# EAGLE library part 74LVC3G34DC,125 (library SamacSys_Parts)
74LVC3G34 - Triple buffer@en-us Source: Datasheet <https://assets.nexperia.com/documents/data-sheet/74LVC3G34.pdf>
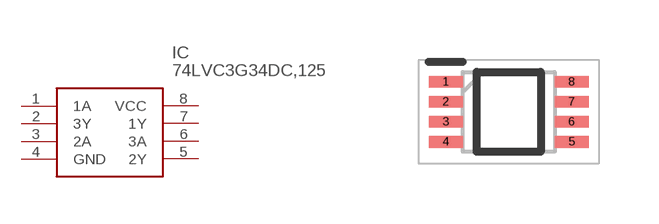
[diagram p94: symbol with the pads of SOP50P310X100-8N; footprint SOP50P310X100-8N]

Designator prefix IC

## 74LVC3G34DC,125 (DESCRIPTION: 74LVC3G34 - Triple buffer@en-us; HEIGHT: 1mm; MANUFACTURER_NAME: Nexperia; MANUFACTURER_PART_NUMBER: 74LVC3G34DC,125; MOUSER_PART_NUMBER: 771-LVC3G34DC125; MOUSER_PRICE-STOCK: https://www.mouser.co.uk/ProductDetail/Nexperia/74LVC3G34DC125?qs=me8TqzrmIYVKrrD%2FHwEQGA%3D%3D)  [SOP50P310X100-8N]
1  1A
2  3Y
3  2A
4  GND
5  2Y
6  3A
7  1Y
8  VCC

## Footprint SOP50P310X100-8N (pad centres in mm)
SOT765-1
smd 0.85 x 0.3: 1 -1.575,0.75; 2 -1.575,0.25; 3 -1.575,-0.25; 4 -1.575,-0.75; 5 1.575,-0.75; 6 1.575,-0.25; 7 1.575,0.25; 8 1.575,0.75